# Altium schematic symbol library opto-trans-siemens.SCHLIB: 13 symbols
Pins are listed as number, name and electrical type; pins without a type are passive.

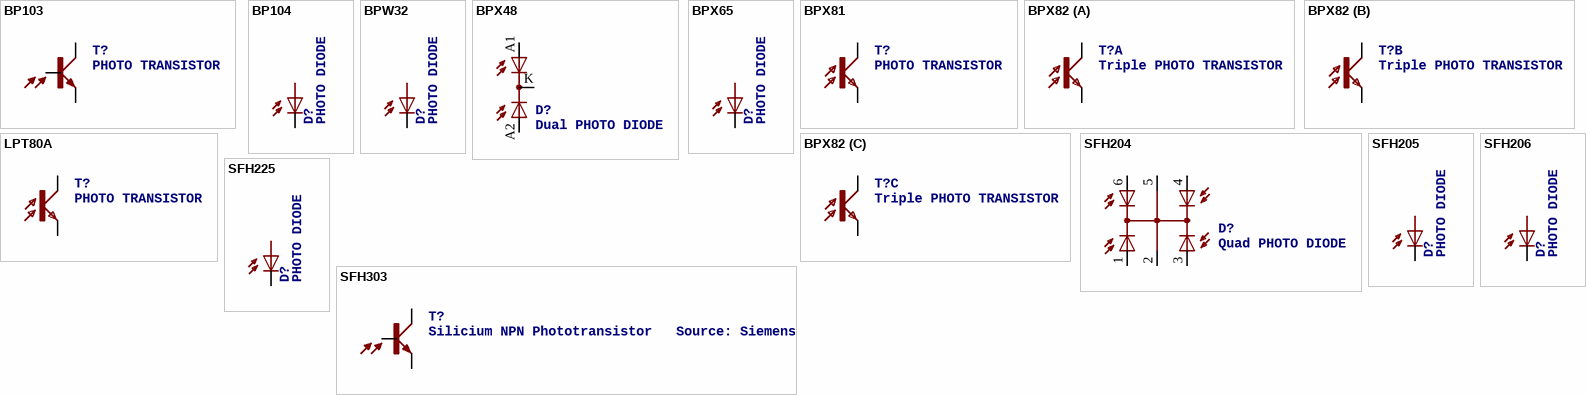
[diagram p0: symbols BP103 to SFH303]

## BP103
designator T?, comment PHOTO TRANSISTOR
OC_FARNELL: unknown; OC_NEWARK: unknown
footprint BP103
pins: B, C, E

## BP104
designator D?, comment PHOTO DIODE
MPN: BP104; MF: VISHAY/TELEFUNKEN; OC_FARNELL: 1779636; OC_NEWARK: 14M4504
footprint BP104
pins: A, K C

## BPW32
designator D?, comment PHOTO DIODE
OC_FARNELL: unknown; OC_NEWARK: unknown
footprint BPW32
pins: A, K C

## BPX48
designator D?, comment Dual PHOTO DIODE
OC_FARNELL: unknown; OC_NEWARK: unknown
footprint BPX48
pins: A1, A2, K C

## BPX65
designator D?, comment PHOTO DIODE
MPN: BPX65.; OC_FARNELL: 327451; OC_NEWARK: 06WX2764
footprint BPX65
pins: A, K C

## BPX81
designator T?, comment PHOTO TRANSISTOR
OC_FARNELL: unknown; OC_NEWARK: unknown
footprint BPX81
pins: C, E

## BPX82
designator T?, comment Triple PHOTO TRANSISTOR
OC_FARNELL: unknown; OC_NEWARK: unknown
footprint BPX82
part A pins: C1 C, E1 E
part B pins: C2 C, E2 E
part C pins: C3 C, E3 E

## LPT80A
designator T?, comment PHOTO TRANSISTOR
OC_FARNELL: unknown; OC_NEWARK: unknown
footprint LPT80A
pins: C, E

## SFH204
designator D?, comment Quad PHOTO DIODE
OC_FARNELL: unknown; OC_NEWARK: unknown
footprint SFH204
pins: 1, 2, 3, 4, 5, 6

## SFH205
designator D?, comment PHOTO DIODE
OC_FARNELL: unknown; OC_NEWARK: unknown
footprint SFH205
pins: A, K C

## SFH206
designator D?, comment PHOTO DIODE
MPN: SFH206K; OC_FARNELL: 1212741; OC_NEWARK: 01M8807
footprint SFH206
pins: A, K C

## SFH225
designator D?, comment PHOTO DIODE
OC_FARNELL: unknown; OC_NEWARK: unknown
footprint SFH225
pins: A, K C

## SFH303
designator T?, comment Silicium NPN Phototransistor   Source: Siemens
OC_FARNELL: unknown; OC_NEWARK: unknown
footprint SFH303
pins: 1 E, 2 C, 3 B